# Altium schematic symbol library LM2576.SchLib: 1 symbol
Pins are listed as number, name and electrical type; pins without a type are passive.

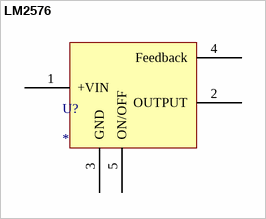
[diagram p0: symbol LM2576]

## LM2576
designator U?
LM2576
pins: 1 +VIN "usb 4 computer 单片机学习板", 2 OUTPUT "usb 4 computer 单片机学习板", 3 GND "usb 4 computer 单片机学习板", 4 Feedback "usb 4 computer 单片机学习板", 5 ON/OFF "usb 4 computer 单片机学习板"